# EAGLE library part LT1819 (library Testbed)
LT1819 400MHz OPV http://www.analog.com/media/en/technical-documentation/data-sheets/18189fb.pdf
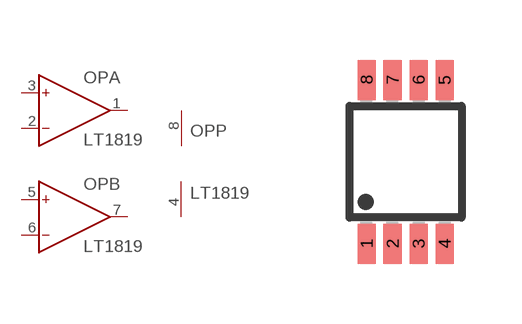
[diagram p1: symbol with the pads of MSOP8; footprint MSOP8]

Designator prefix OP; gates A=OP B=OP P=PWR+-

## LT1819  [MSOP8]
1  A:OUT  out
2  A:IN-  in
3  A:IN+  in
4  P:V-  pwr
5  B:IN+  in
6  B:IN-  in
7  B:OUT  out
8  P:V+  pwr

## Footprint MSOP8 (pad centres in mm)
Micro Small Outline Package
smd 0.45 x 1: 1 -0.975,-2.05; 2 -0.325,-2.05; 3 0.325,-2.05; 4 0.975,-2.05; 5 0.975,2.05; 6 0.325,2.05; 7 -0.325,2.05; 8 -0.975,2.05